# EAGLE library part --MERGED_COMP-TLV3502 (library proxmark3_exported_and_modified_components)
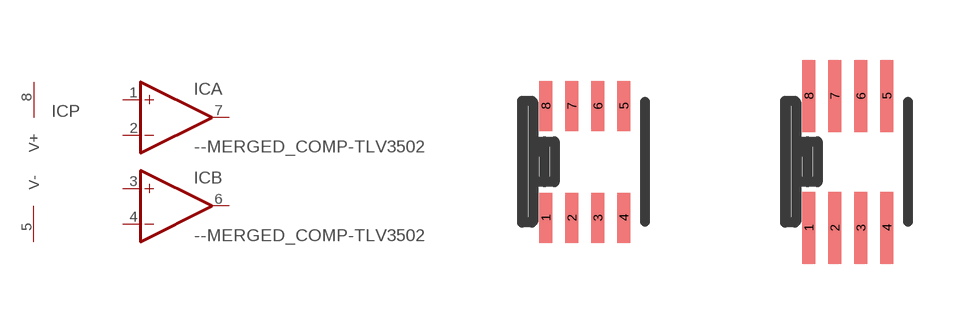
[diagram p3: symbol with the pads of --MERGED_SOT-23-8; footprints --MERGED_SOT-23-8, --MERGED_SOT-23-8-OR-MSOP-8]

Designator prefix IC; gates A=--MERGED_OPAMP B=--MERGED_OPAMP P=--MERGED_POWER-PINS

## --MERGED_COMP-TLV3502SOT-23-8  [--MERGED_SOT-23-8]
1  A:+IN  in
2  A:-IN  in
3  B:+IN  in
4  B:-IN  in
5  P:V-
6  B:OUT  out
7  A:OUT  out
8  P:V+

## --MERGED_COMP-TLV3502SOT-23-8-OR-MSOP-8  [--MERGED_SOT-23-8-OR-MSOP-8]
Pads as for --MERGED_SOT-23-8

## Footprint --MERGED_SOT-23-8 (pad centres in mm)
smd 0.325 x 1.25: 1 -0.975,-1.4; 2 -0.325,-1.4; 3 0.325,-1.4; 4 0.975,-1.4; 5 0.975,1.4; 6 0.325,1.4; 7 -0.325,1.4; 8 -0.975,1.4

## Footprint --MERGED_SOT-23-8-OR-MSOP-8 (pad centres in mm)
smd 0.325 x 1.8: 1 -0.975,-1.65; 2 -0.325,-1.65; 3 0.325,-1.65; 4 0.975,-1.65; 5 0.975,1.65; 6 0.325,1.65; 7 -0.325,1.65; 8 -0.975,1.65